# EAGLE library part TAS2780 (library pimoroni-ics)
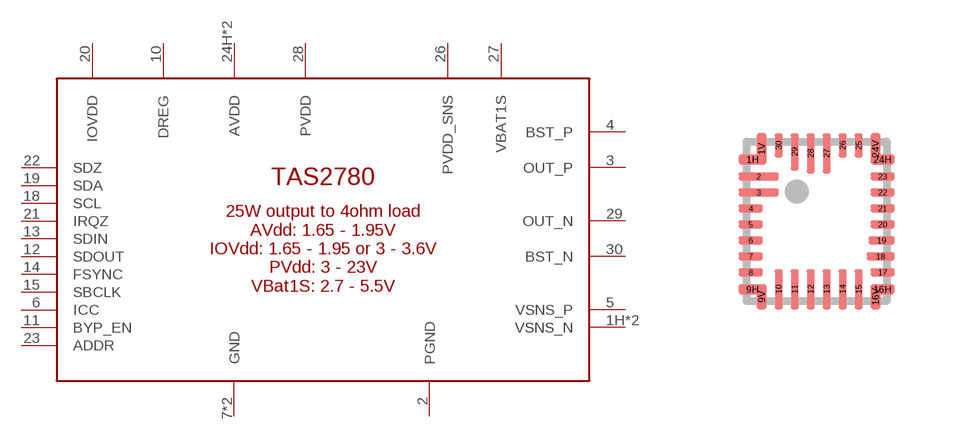
[diagram p160: symbol with the pads of TAS2780; footprint TAS2780]

Designator prefix U

## TAS2780  [TAS2780]
1H  VSNS_N
1V  VSNS_N
2  PGND
3  OUT_P
4  BST_P
5  VSNS_P
6  ICC
7  GND
10  DREG
11  BYP_EN
12  SDOUT
13  SDIN
14  FSYNC
15  SBCLK
18  SCL
19  SDA
20  IOVDD
21  IRQZ
22  SDZ
23  ADDR
24H  AVDD
24V  AVDD
25  GND
26  PVDD_SNS
27  VBAT1S
28  PVDD
29  OUT_N
30  BST_N

## Footprint TAS2780 (pad centres in mm)
smd 0.7 x 0.25: 1H -1.6,1.545; 9H -1.6,-1.705
smd 0.25 x 0.78: 1V -1.375,1.81; 24V 1.475,1.81
smd 1 x 0.2: 2 -1.45,1.12; 3 -1.45,0.72
smd 0.6 x 0.2: 4 -1.65,0.32; 5 -1.65,-0.08; 6 -1.65,-0.48; 7 -1.65,-0.88; 8 -1.65,-1.28; 17 1.65,-1.28; 20 1.65,-0.08; 21 1.65,0.32; 22 1.65,0.72; 23 1.65,1.12
smd 0.25 x 0.62: 9V -1.375,-1.89; 16V 1.475,-1.89
smd 0.2 x 1: 10 -0.95,-1.7; 11 -0.55,-1.7; 12 -0.15,-1.7; 13 0.25,-1.7; 14 0.65,-1.7; 15 1.05,-1.7; 27 0.25,1.7; 28 -0.15,1.7
smd 0.6 x 0.25: 16H 1.65,-1.705; 24H 1.65,1.545
smd 0.7 x 0.2: 18 1.6,-0.88
smd 0.65 x 0.2: 19 1.625,-0.48
smd 0.2 x 0.6: 25 1.05,1.9; 26 0.65,1.9; 30 -0.95,1.9
smd 0.2 x 0.925: 29 -0.55,1.738